# Altium schematic symbol library LED,Green,SMD,0603.Schlib: 1 symbol
Pins are listed as number, name and electrical type; pins without a type are passive.

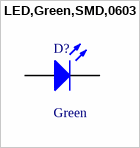
[diagram p0: symbol LED,Green,SMD,0603]

## LED,Green,SMD,0603
designator D?, comment Green
Green 530nm LED Indication - Discrete 3V 0603 (1608 Metric)
pins: A, C